# EAGLE library part FIN41.52 (library My)
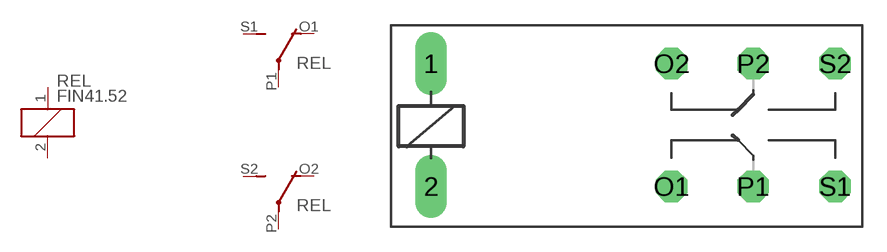
[diagram p0: symbol with the pads of FIN41; footprint FIN41]

Designator prefix REL; gates G$1=K G$2=U G$3=U

## FIN41.52  [FIN41]
1  G$1:1  pas
2  G$1:2  pas
O1  G$2:O  pas
O2  G$3:O  pas
P1  G$2:P  pas
P2  G$3:P  pas
S1  G$2:S  pas
S2  G$3:S  pas

## Footprint FIN41 (pad centres in mm)
drill 1.3 long: 1 -10.16,3.81; 2 -10.16,-3.81
drill 1.3 octagon: O1 4.763,-3.81; O2 4.763,3.81; P1 9.842,-3.81; P2 9.842,3.81; S1 14.922,-3.81; S2 14.922,3.81